# EAGLE library part ATSAML21J (library greg-MCU)
Atmel SAML21J ARM Cortex-M0+ Microcontroller The Atmel ® | SMART ™ SAM L21 is a series of low-power microcontrollers using the 32-bit ARM ® Cortex ® -M0+ processor, and ranging from 32- to 64-pins with up to 256KB Flash and 32KB of SRAM. The SAM L21 devices operate at a maximum frequency of 48MHz and reach 2.46 CoreMark/MHz. They are designed for simple and intuitive migration with identical peripheral modules, hex compatible code, identical linear address map and pin compatible migration paths between all devices in the product series. All devices include intelligent and flexible peripherals, Atmel Event System for inter-peripheral signaling, and support for capacitive touch button, slider and wheel user interfaces.
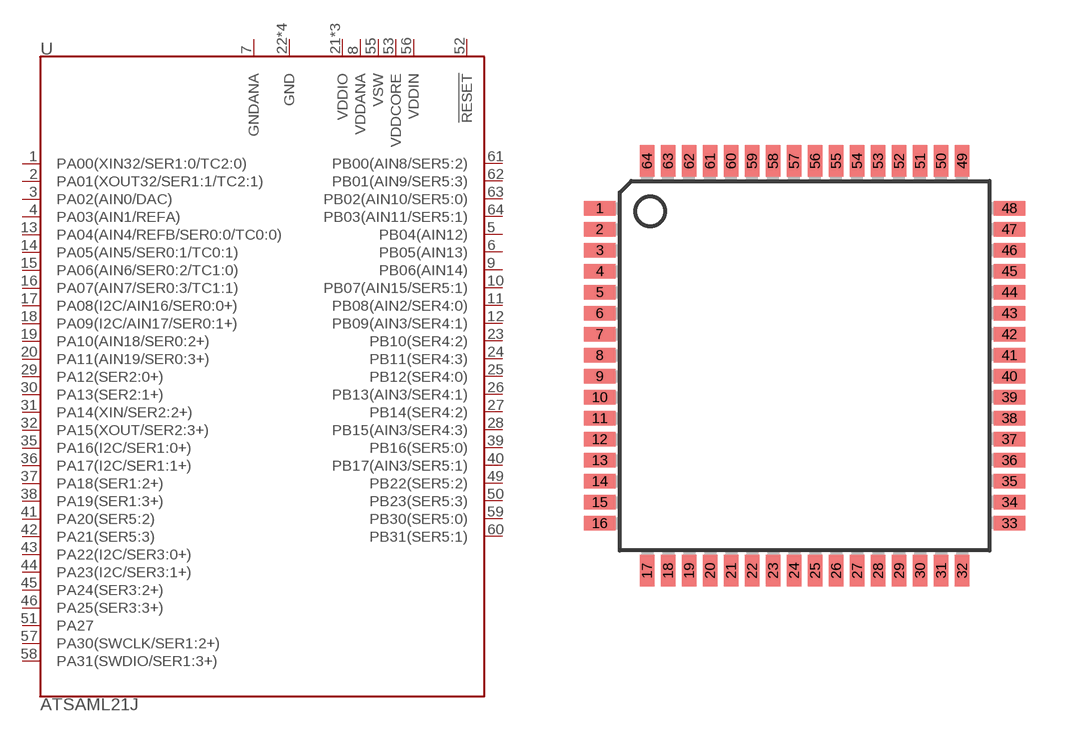
[diagram p1: symbol with the pads of TQFP64; footprint TQFP64]

Designator prefix U

## ATSAML21JA  [TQFP64]
1  PA00(XIN32/SER1:0/TC2:0)
2  PA01(XOUT32/SER1:1/TC2:1)
3  PA02(AIN0/DAC)
4  PA03(AIN1/REFA)
5  PB04(AIN12)
6  PB05(AIN13)
7  GNDANA
8  VDDANA
9  PB06(AIN14)
10  PB07(AIN15/SER5:1)
11  PB08(AIN2/SER4:0)
12  PB09(AIN3/SER4:1)
13  PA04(AIN4/REFB/SER0:0/TC0:0)
14  PA05(AIN5/SER0:1/TC0:1)
15  PA06(AIN6/SER0:2/TC1:0)
16  PA07(AIN7/SER0:3/TC1:1)
17  PA08(I2C/AIN16/SER0:0+)
18  PA09(I2C/AIN17/SER0:1+)
19  PA10(AIN18/SER0:2+)
20  PA11(AIN19/SER0:3+)
21  VDDIO
22  GND
23  PB10(SER4:2)
24  PB11(SER4:3)
25  PB12(SER4:0)
26  PB13(AIN3/SER4:1)
27  PB14(SER4:2)
28  PB15(AIN3/SER4:3)
29  PA12(SER2:0+)
30  PA13(SER2:1+)
31  PA14(XIN/SER2:2+)
32  PA15(XOUT/SER2:3+)
33  GND
34  VDDIO
35  PA16(I2C/SER1:0+)
36  PA17(I2C/SER1:1+)
37  PA18(SER1:2+)
38  PA19(SER1:3+)
39  PB16(SER5:0)
40  PB17(AIN3/SER5:1)
41  PA20(SER5:2)
42  PA21(SER5:3)
43  PA22(I2C/SER3:0+)
44  PA23(I2C/SER3:1+)
45  PA24(SER3:2+)
46  PA25(SER3:3+)
47  GND
48  VDDIO
49  PB22(SER5:2)
50  PB23(SER5:3)
51  PA27
52  !RESET!
53  VDDCORE
54  GND
55  VSW
56  VDDIN
57  PA30(SWCLK/SER1:2+)
58  PA31(SWDIO/SER1:3+)
59  PB30(SER5:0)
60  PB31(SER5:1)
61  PB00(AIN8/SER5:2)
62  PB01(AIN9/SER5:3)
63  PB02(AIN10/SER5:0)
64  PB03(AIN11/SER5:1)

## Footprint TQFP64 (pad centres in mm)
smd 1.194 x 0.559: 1 -7.8,6; 2 -7.8,5.2; 3 -7.8,4.4; 4 -7.8,3.6; 5 -7.8,2.8; 6 -7.8,2; 7 -7.8,1.2; 8 -7.8,0.4; 9 -7.8,-0.4; 10 -7.8,-1.2; 11 -7.8,-2; 12 -7.8,-2.8; 13 -7.8,-3.6; 14 -7.8,-4.4; 15 -7.8,-5.2; 16 -7.8,-6; 33 7.8,-6; 34 7.8,-5.2; 35 7.8,-4.4; 36 7.8,-3.6; 37 7.8,-2.8; 38 7.8,-2; 39 7.8,-1.2; 40 7.8,-0.4; 41 7.8,0.4; 42 7.8,1.2; 43 7.8,2; 44 7.8,2.8; 45 7.8,3.6; 46 7.8,4.4; 47 7.8,5.2; 48 7.8,6
smd 0.559 x 1.194: 17 -6,-7.8; 18 -5.2,-7.8; 19 -4.4,-7.8; 20 -3.6,-7.8; 21 -2.8,-7.8; 22 -2,-7.8; 23 -1.2,-7.8; 24 -0.4,-7.8; 25 0.4,-7.8; 26 1.2,-7.8; 27 2,-7.8; 28 2.8,-7.8; 29 3.6,-7.8; 30 4.4,-7.8; 31 5.2,-7.8; 32 6,-7.8; 49 6,7.8; 50 5.2,7.8; 51 4.4,7.8; 52 3.6,7.8; 53 2.8,7.8; 54 2,7.8; 55 1.2,7.8; 56 0.4,7.8; 57 -0.4,7.8; 58 -1.2,7.8; 59 -2,7.8; 60 -2.8,7.8; 61 -3.6,7.8; 62 -4.4,7.8; 63 -5.2,7.8; 64 -6,7.8